# EAGLE library part STEPPER16 (library BlueToothStepperV2)
stepper
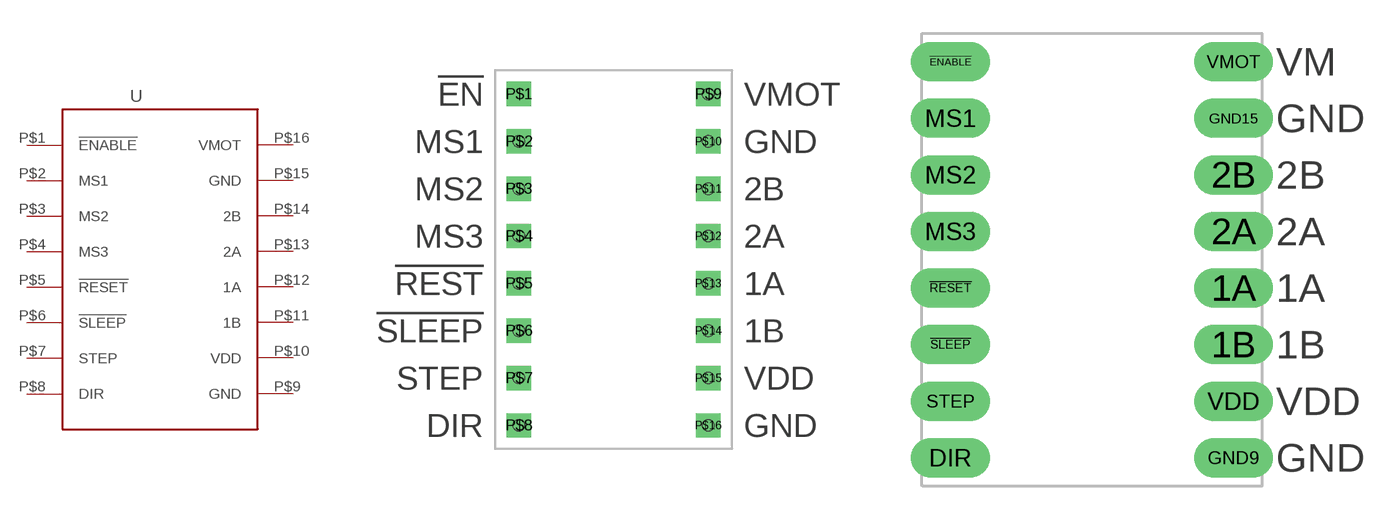
[diagram p2: symbol with the pads of STEPPER16PIN; footprints STEPPER16PIN, STEPPER16PINV2]

Designator prefix -

## STEPPER16  [STEPPER16PIN]
P$1  !ENABLE
P$2  MS1
P$3  MS2
P$4  MS3
P$5  !RESET
P$6  !SLEEP
P$7  STEP
P$8  DIR
P$9  GND
P$10  VDD
P$11  1B
P$12  1A
P$13  2A
P$14  2B
P$15  GND
P$16  VMOT

## STEPPER1616PINV2  [STEPPER16PINV2]
1A  1A
1B  1B
2A  2A
2B  2B
!ENABLE  !ENABLE
!RESET  !RESET
!SLEEP  !SLEEP
DIR  DIR
GND9  GND
GND15  GND
MS1  MS1
MS2  MS2
MS3  MS3
STEP  STEP
VDD  VDD
VMOT  VMOT

## Footprint STEPPER16PIN (pad centres in mm)
drill 0.8 square: P$1 -6.35,11.43; P$2 -6.35,8.89; P$3 -6.35,6.35; P$4 -6.35,3.81; P$5 -6.35,1.27; P$6 -6.35,-1.27; P$7 -6.35,-3.81; P$8 -6.35,-6.35; P$9 3.81,11.43; P$10 3.81,8.89; P$11 3.81,6.35; P$12 3.81,3.81; P$13 3.81,1.27; P$14 3.81,-1.27; P$15 3.81,-3.81; P$16 3.81,-6.35
hole 0.6 at -6.35,8.89
hole 0.6 at -6.35,6.35
hole 0.6 at -6.35,3.81
hole 0.6 at -6.35,1.27
hole 0.6 at -6.35,-1.27
hole 0.6 at -6.35,-3.81
hole 0.6 at -6.35,-6.35
hole 0.6 at 3.81,-6.35
hole 0.6 at 3.81,-3.81
hole 0.6 at 3.81,-1.27
hole 0.6 at 3.81,1.27
hole 0.6 at 3.81,3.81
hole 0.6 at 3.81,6.35
hole 0.6 at 3.81,8.89
hole 0.6 at 3.81,11.43

## Footprint STEPPER16PINV2 (pad centres in mm)
drill 1 pad 1.778 long: 1A 6.35,-1.27; 1B 6.35,-3.81; 2A 6.35,1.27; 2B 6.35,3.81; !ENABLE -6.35,8.89; !RESET -6.35,-1.27; !SLEEP -6.35,-3.81; DIR -6.35,-8.89; GND9 6.35,-8.89; GND15 6.35,6.35; MS1 -6.35,6.35; MS2 -6.35,3.81; MS3 -6.35,1.27; STEP -6.35,-6.35; VDD 6.35,-6.35; VMOT 6.35,8.89